# EAGLE library part 74HC42N,652 (library NXP_By_element14_Batch_1)
BCD to decimal decoder
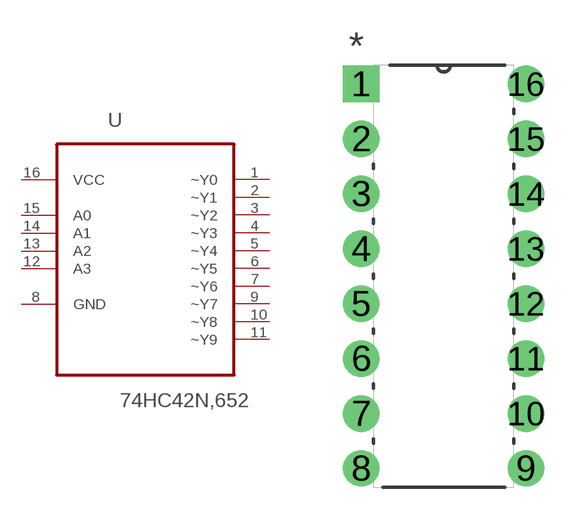
[diagram p130: symbol with the pads of DIP254P762X420-16; footprint DIP254P762X420-16]

Designator prefix U

## 74HC42N,652 (MPN: 74HC42N,652; OC_FARNELL: 1868625; OC_NEWARK: 71R2570; PACKAGE: DIP-16; SUPPLIER: NXP)  [DIP254P762X420-16]
1  ~Y0  out
2  ~Y1  out
3  ~Y2  out
4  ~Y3  out
5  ~Y4  out
6  ~Y5  out
7  ~Y6  out
8  GND  pas
9  ~Y7  out
10  ~Y8  out
11  ~Y9  out
12  A3  in
13  A2  in
14  A1  in
15  A0  in
16  VCC  pwr

## Footprint DIP254P762X420-16 (pad centres in mm)
drill 1.118 square: 1 -7.62,17.78
drill 1.118: 2 -7.62,15.24; 3 -7.62,12.7; 4 -7.62,10.16; 5 -7.62,7.62; 6 -7.62,5.08; 7 -7.62,2.54; 8 -7.62,0; 9 0,0; 10 0,2.54; 11 0,5.08; 12 0,7.62; 13 0,10.16; 14 0,12.7; 15 0,15.24; 16 0,17.78